# Altium footprint library DC-DC converters_sizes.PcbLib: 4 footprints
Each footprint in its own frame and in the unit in brackets; x right, y up, seen from the top. Pads: shape width x height; smd on the part's side, far side on the other; paste and mask are expansions set on the pad; w line width, h text height; cw(c..) or ccw(c..) is an arc to the next point about the centre after c.
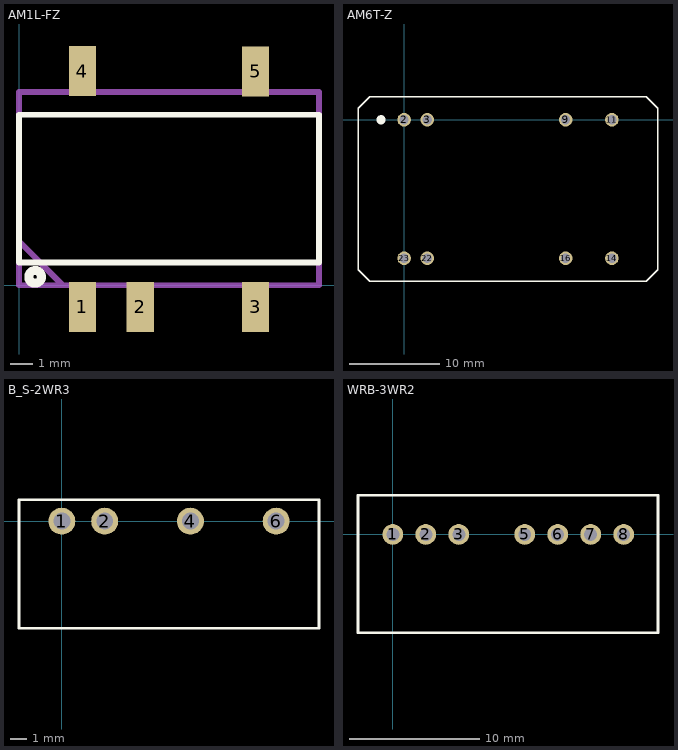
[diagram p0: the footprints below, top view; thin cyan lines are the x and y axes]

## AM1L-FZ [mm]
pads (5):
  rect 1.2x2.2 smd: 1(2.79,-0.947) 2(5.33,-0.947) 3(10.41,-0.947) 4(2.79,9.42) 5(10.41,9.41)
Top Overlay:
  circle w0.254: c0.709,0.37 r0.351
  circle w0.254: c0.709,0.37 r0.211
  lines w0.254: 0,1 0,7.5 13.2,7.5 13.2,1 0,1
Mechanical 1:
  lines w0.254: 0.01,8.5 0,8.5 ; 0.03,1.9 1.93,0 2.14,0 ; 0,8.5 0,0 13.2,0 ; 0,8.5 13.2,8.5 ; 13.2,0 13.2,8.5 ; 13.2,0 13.2,8.5
3D body: height 7, standoff 0, extent 0,0 13.2,8.5

## AM6T-Z [mm]
pads (8):
  round 1.5 hole 1: 2(0,0) 3(2.54,0) 9(17.78,0) 11(22.86,0) 14(22.86,-15.24) 16(17.78,-15.24) 22(2.54,-15.24) 23(0,-15.24)
Top Overlay:
  circle w0.508: c-2.54,0 r0.254
  lines w0.15: -5.08,-16.51 -5.08,1.27 -3.81,2.54 26.67,2.54 27.94,1.27 27.94,-15.24 27.94,-16.51 26.67,-17.78 25.4,-17.78 -3.81,-17.78 -5.08,-16.51
3D body: height 10.16, standoff 0, extent -5.08,-17.78 27.94,2.54

## B_S-2WR3 [mm]
pads (4):
  round 1.6 hole 1: 1(0,0) 2(2.54,0) 4(7.62,0) 6(12.7,0)
Top Overlay:
  lines w0.15: -2.54,-6.35 15.24,-6.35 15.24,1.27 -2.54,1.27 -2.54,0 -2.54,-6.35
3D body: height 10.16, standoff 0, extent -2.54,-6.35 15.24,1.27
3D body: height 0, standoff -2.54, extent -0.479,-0.482 0.483,0.482
3D body: height 0, standoff -2.54, extent 2.061,-0.482 3.023,0.482
3D body: height 0, standoff -2.54, extent 7.141,-0.482 8.103,0.482
3D body: height 0, standoff -2.54, extent 12.221,-0.482 13.183,0.482

## WRB-3WR2 [mm]
pads (7):
  round 1.6 hole 1: 1(0,0) 2(2.54,0) 3(5.08,0) 5(10.16,0) 6(12.7,0) 7(15.24,0) 8(17.78,0)
Top Overlay:
  lines w0.2: -2.68,-7.56 20.42,-7.56 20.42,3 -2.68,3 -2.68,-7.56
3D body: height 12, standoff 0, extent -2.11,-7.05 19.89,2.5
3D body: height 0.1, standoff -4.1, extent 17.54,-0.14 18.04,0.16
3D body: height 0.1, standoff -4.1, extent 15,-0.14 15.5,0.16
3D body: height 0.1, standoff -4.1, extent 12.46,-0.14 12.96,0.16
3D body: height 0.1, standoff -4.1, extent 9.92,-0.14 10.42,0.16
3D body: height 0.1, standoff -4.1, extent 4.84,-0.14 5.34,0.16
3D body: height 0.1, standoff -4.1, extent 2.3,-0.14 2.8,0.16
3D body: height 0.1, standoff -4.1, extent -0.24,-0.14 0.26,0.16